# EAGLE library part 5584КП11 (library std-logic-5584series)
АЕЯР.431200.209 ТУ 5584КП11У, 5584КП11АУ - Четыре селектора-мультиплексора 2-1 с тремя состояниями на выходе.
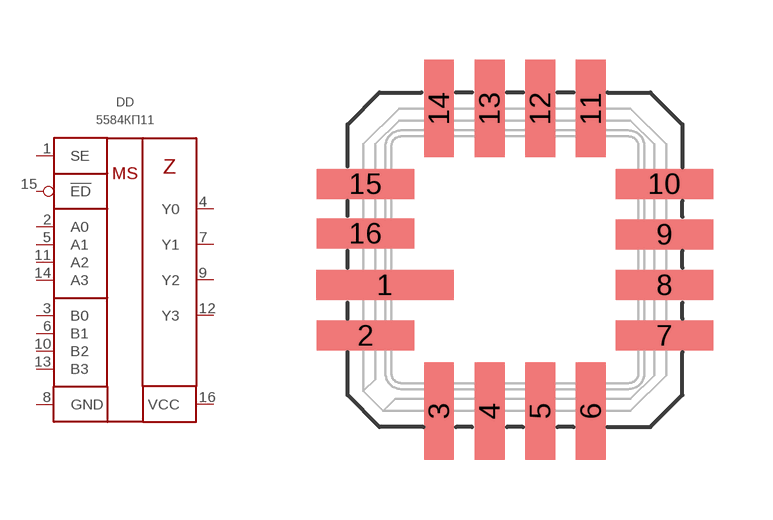
[diagram p13: symbol with the pads of 5119.16-А; footprint 5119.16-А]

Designator prefix DD

## 5584КП11У  [5119.16-А]
1  SE  in
2  A0  in
3  B0  in
4  Y0  out
5  A1  in
6  B1  in
7  Y1  out
8  GND  pwr
9  Y2  out
10  B2  in
11  A2  in
12  Y3  out
13  B3  in
14  A3  in
15  !ED  in
16  VCC  pwr

## 5584КП11АУ  [5119.16-А]
Pads as for 5119.16-А

## Footprint 5119.16-А (pad centres in mm)
smd 3.45 x 0.75: 1 -3.26,-0.635
smd 2.45 x 0.75: 2 -3.75,-1.905; 7 3.75,-1.905; 8 3.75,-0.635; 9 3.75,0.635; 10 3.75,1.905; 15 -3.75,1.905; 16 -3.75,0.66
smd 0.75 x 2.45: 3 -1.905,-3.8; 4 -0.635,-3.8; 5 0.635,-3.8; 6 1.905,-3.8; 11 1.905,3.8; 12 0.635,3.8; 13 -0.635,3.8; 14 -1.905,3.8